# Altium footprint library DPAK228P987X240-3N.PcbLib: 1 footprints
Each footprint in its own frame and in the unit in brackets; x right, y up, seen from the top. Pads: shape width x height; smd on the part's side, far side on the other; paste and mask are expansions set on the pad; w line width, h text height; cw(c..) or ccw(c..) is an arc to the next point about the centre after c.
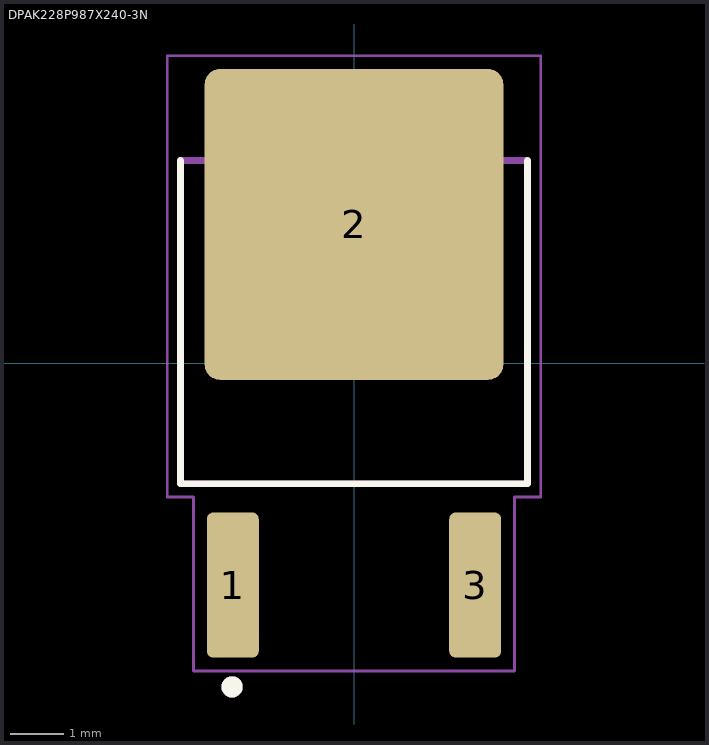
[diagram p0: the footprint, top view; thin cyan lines are the x and y axes]

## DPAK228P987X240-3N [mm]
pads (3):
  rrect25% 0.98x2.74 smd: 1(-2.286,-4.18) 3(2.286,-4.18)
  rrect10% 5.63x5.86 smd paste-4: 2(0,2.62)
Top Overlay:
  circle w0.2: c-2.3,-6.1 r0.1
  lines w0.127: -3.27,3.825 -3.27,-2.27 3.27,-2.27 3.27,3.825
Top Paste:
  region: -0.53,3.15 -2.29,3.15 -2.29,5.03 -0.53,5.03
  region: 2.29,3.15 0.53,3.15 0.53,5.03 2.29,5.03
  region: -0.53,0.21 -2.29,0.21 -2.29,2.09 -0.53,2.09
  region: 2.29,0.21 0.53,0.21 0.53,2.09 2.29,2.09
Mechanical 13:
  circle w0.2: c-2.3,-6.1 r0.1
  lines w0.127: -3.27,-2.27 3.27,-2.27 3.27,3.825 -3.27,3.825 -3.27,-2.27
Mechanical 15:
  lines w0.05: -3.52,-2.52 -3.52,5.8 3.52,5.8 3.52,-2.52 3.026,-2.52 3.026,-5.8 -3.026,-5.8 -3.026,-2.52 -3.52,-2.52
3D body "step_temp.STEP": height 2.4, standoff -0.23, extent -3.27,-5.604 3.27,4.271